# EAGLE library part ARDUINO_SHIELD (library dbg-misc)
Arduino shield footprint
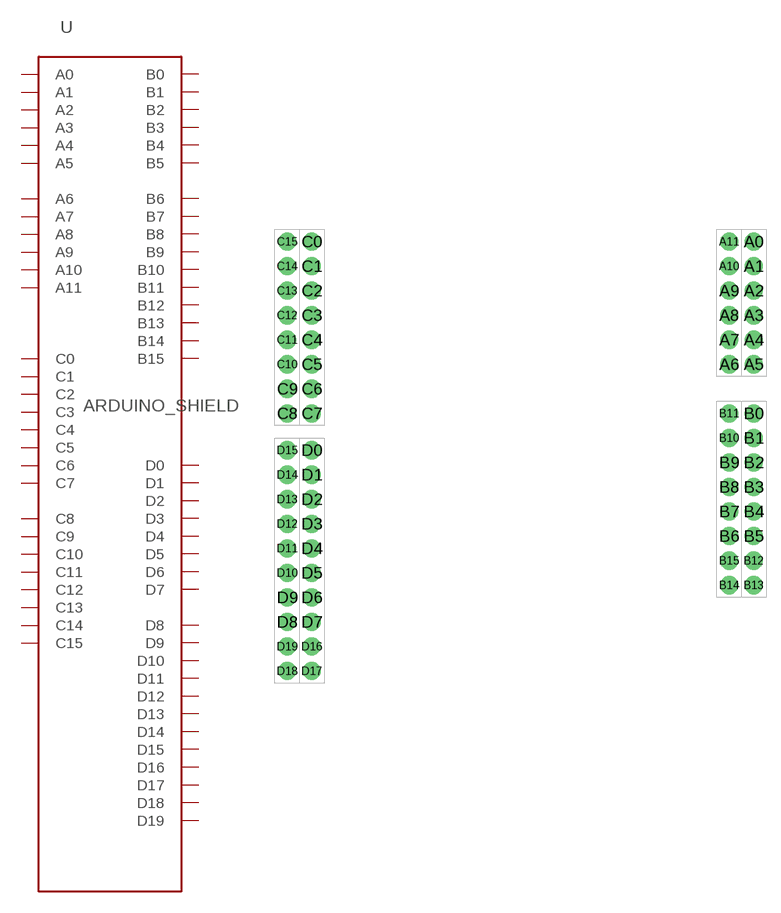
[diagram p2: symbol with the pads of DUEMILANOVE_VIAS; footprint DUEMILANOVE_VIAS]

Designator prefix U

## ARDUINO_SHIELDNO_SILK  [DUEMILANOVE_VIAS]
A0  A0
A1  A1
A2  A2
A3  A3
A4  A4
A5  A5
A6  A6
A7  A7
A8  A8
A9  A9
A10  A10
A11  A11
B0  B0
B1  B1
B2  B2
B3  B3
B4  B4
B5  B5
B6  B6
B7  B7
B8  B8
B9  B9
B10  B10
B11  B11
B12  B12
B13  B13
B14  B14
B15  B15
C0  C0
C1  C1
C2  C2
C3  C3
C4  C4
C5  C5
C6  C6
C7  C7
C8  C8
C9  C9
C10  C10
C11  C11
C12  C12
C13  C13
C14  C14
C15  C15
D0  D0
D1  D1
D2  D2
D3  D3
D4  D4
D5  D5
D6  D6
D7  D7
D8  D8
D9  D9
D10  D10
D11  D11
D12  D12
D13  D13
D14  D14
D15  D15
D16  D16
D17  D17
D18  D18
D19  D19

## Footprint DUEMILANOVE_VIAS (pad centres in mm)
drill 1.016 pad 1.88: A0 50.8,41.91; A1 50.8,39.37; A2 50.8,36.83; A3 50.8,34.29; A4 50.8,31.75; A5 50.8,29.21; A6 48.26,29.21; A7 48.26,31.75; A8 48.26,34.29; A9 48.26,36.83; A10 48.26,39.37; A11 48.26,41.91; B0 50.8,24.13; B1 50.8,21.59; B2 50.8,19.05; B3 50.8,16.51; B4 50.8,13.97; B5 50.8,11.43; B6 48.26,11.43; B7 48.26,13.97; B8 48.26,16.51; B9 48.26,19.05; B10 48.26,21.59; B11 48.26,24.13; B12 50.8,8.89; B13 50.8,6.35; B14 48.26,6.35; B15 48.26,8.89; C0 5.08,41.91; C1 5.08,39.37; C2 5.08,36.83; C3 5.08,34.29; C4 5.08,31.75; C5 5.08,29.21; C6 5.08,26.67; C7 5.08,24.13; C8 2.54,24.13; C9 2.54,26.67; C10 2.54,29.21; C11 2.54,31.75; C12 2.54,34.29; C13 2.54,36.83; C14 2.54,39.37; C15 2.54,41.91; D0 5.08,20.32; D1 5.08,17.78; D2 5.08,15.24; D3 5.08,12.7; D4 5.08,10.16; D5 5.08,7.62; D6 5.08,5.08; D7 5.08,2.54; D8 2.54,2.54; D9 2.54,5.08; D10 2.54,7.62; D11 2.54,10.16; D12 2.54,12.7; D13 2.54,15.24; D14 2.54,17.78; D15 2.54,20.32; D16 5.08,0; D17 5.08,-2.54; D18 2.54,-2.54; D19 2.54,0